# Altium integrated library VLCF5028T-221MR22-2.IntLib: 2 symbols
Pins are listed as number, name and electrical type; pins without a type are passive.

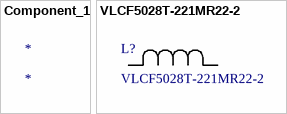
[diagram p0: symbols Component_1 to VLCF5028T-221MR22-2]

## Component_1
designator *

## VLCF5028T-221MR22-2
designator L?
No Description Available; Mfr_Name: TDK; Copyright: Copyright (C) 2022 Ultra Librarian. All rights reserved.; Manufacturer_Part_Number: VLCF5028T-221MR22-2; Digi-Key_Part_Number_1: 445-6560-1-ND; Digi-Key_Part_Number_2: 445-6560-2-ND; Digi-Key_Part_Number_3: 445-6560-6-ND
footprint IND_5028_TDK
pins: 1, 2